# Altium integrated library ICs - Battery Chargers.IntLib: 1 symbol
Pins are listed as number, name and electrical type; pins without a type are passive.

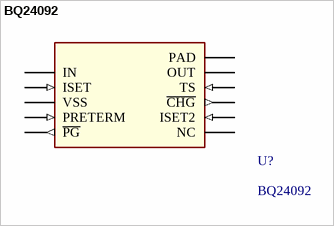
[diagram p0: symbol BQ24092]

## BQ24092
designator U?
Charger IC Lithium-Ion/Polymer 10-MSOP-PowerPad; Manufacturer 1: Texas Instruments; Manufacturer 1 PN: BQ24092DGQR; ComponentLink1Description: Datasheet; ComponentLink1URL: http://www.ti.com/lit/ds/symlink/bq24092.pdf; Digikey PN: 296-41204-1-ND; Mouser PN: 595-BQ24092DGQR
footprint BQ24092DGQR (Charger IC Lithium-Ion/Polymer 10-MSOP-PowerPad)
pins: 1 IN (power), 2 ISET (in), 3 VSS (power), 4 PRETERM (in), 5 ~{PG} (out), 6 NC (power), 7 ISET2 (in), 8 ~{CHG} (out), 9 TS (in), 10 OUT (power), 11 PAD (power)